# Altium footprint library ButtonE-Switch.PcbLib: 1 footprints
Each footprint in its own frame and in the unit in brackets; x right, y up, seen from the top. Pads: shape width x height; smd on the part's side, far side on the other; paste and mask are expansions set on the pad; w line width, h text height; cw(c..) or ccw(c..) is an arc to the next point about the centre after c.
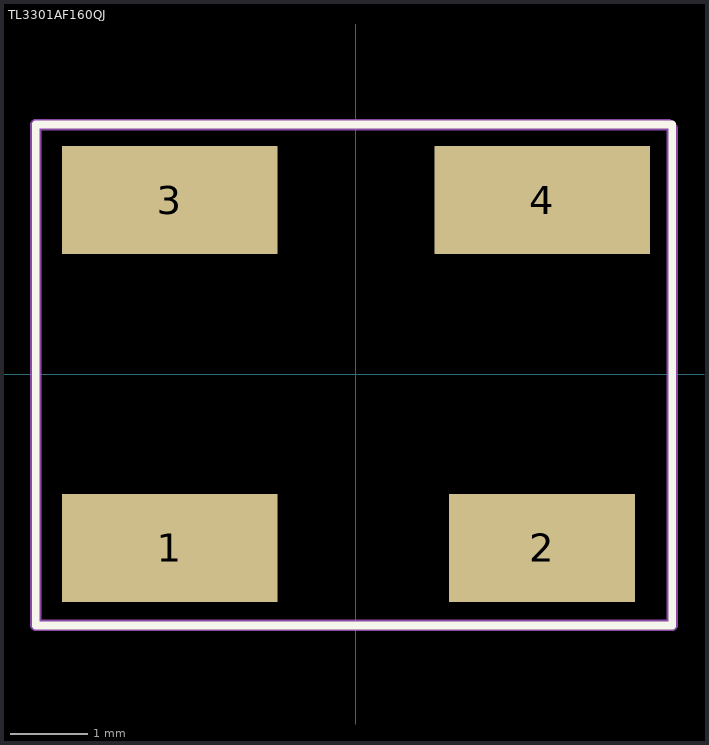
[diagram p0: the footprint, top view; thin cyan lines are the x and y axes]

## TL3301AF160QJ [mm]
pads (4):
  rect 2.785x1.4 smd: 1(-2.408,-2.25) 3(-2.408,2.25) 4(2.408,2.25)
  rect 2.408x1.4 smd: 2(2.408,-2.25)
Top Overlay:
  lines w0.1: -4.14,-3.251 4.089,-3.251 4.089,3.226 -4.14,3.226 -4.14,-3.251
Mechanical 29:
  lines w0.15: -4.14,-3.251 4.089,-3.251 4.089,3.175 4.039,3.226 -4.14,3.226 -4.14,-3.251
  text ".Designator" at -3.023,-0.457 h1.52
3D body "TL3301AFxxxxJ.stp": height 5.32, standoff 0.02, extent -3.3,-3 3.3,3